# EAGLE library part DRV2605LDGSX (library DRV2605LDGSX-TI)
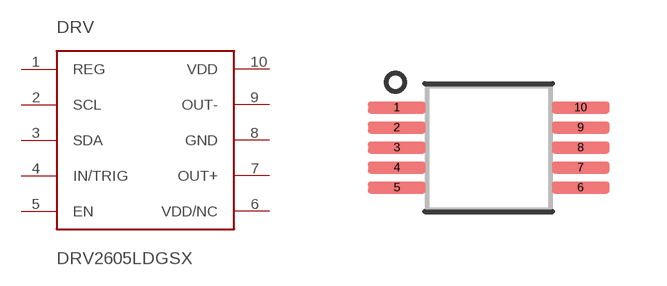
[diagram p0: symbol with the pads of 10-VSSOP; footprint 10-VSSOP]

Designator prefix DRV

## DRV2605LDGSX  [10-VSSOP]
1  REG  out
2  SCL  in
3  SDA
4  IN/TRIG  in
5  EN  in
6  VDD/NC  pwr
7  OUT+  out
8  GND  pas
9  OUT-  out
10  VDD  pwr

## Footprint 10-VSSOP (pad centres in mm)
smd 1.45 x 0.3: 1 -2.3,1; 2 -2.3,0.5; 3 -2.3,0; 4 -2.3,-0.5; 5 -2.3,-1; 6 2.3,-1; 7 2.3,-0.5; 8 2.3,0; 9 2.3,0.5; 10 2.3,1